# Altium footprint library IC_VS1053B_LQFP48.PcbLib: 1 footprints
Each footprint in its own frame and in the unit in brackets; x right, y up, seen from the top. Pads: shape width x height; smd on the part's side, far side on the other; paste and mask are expansions set on the pad; w line width, h text height; cw(c..) or ccw(c..) is an arc to the next point about the centre after c.
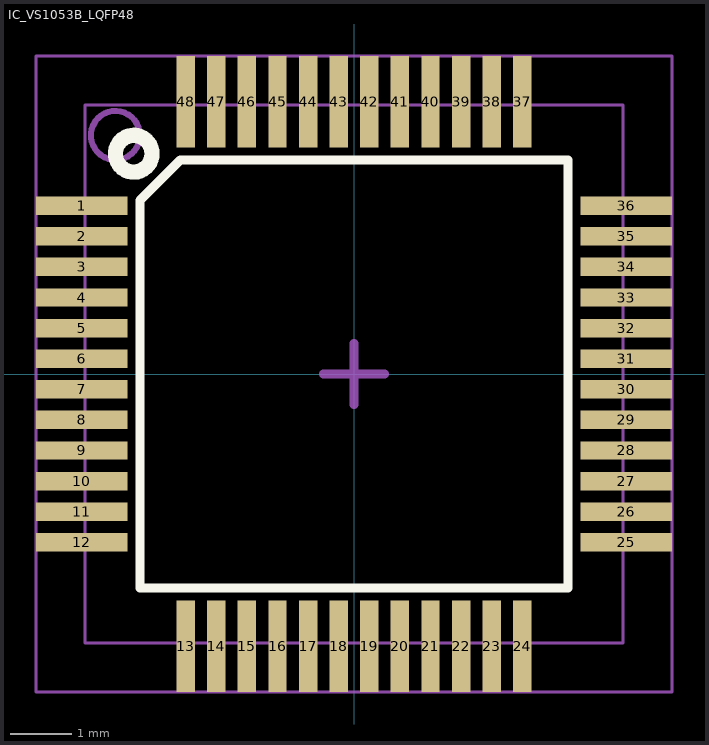
[diagram p0: the footprint, top view; thin cyan lines are the x and y axes]

## IC_VS1053B_LQFP48 [mm] "VS1053B MP3/WAV/OGG/MIDI PLAYER"
pads (48):
  rect 1.5x0.3 smd: 1(-4.45,2.75) 2(-4.45,2.25) 3(-4.45,1.75) 4(-4.45,1.25) 5(-4.45,0.75) 6(-4.45,0.25) 7(-4.45,-0.25) 8(-4.45,-0.75) 9(-4.45,-1.25) 10(-4.45,-1.75) 11(-4.45,-2.25) 12(-4.45,-2.75) 25(4.45,-2.75) 26(4.45,-2.25) 27(4.45,-1.75) 28(4.45,-1.25) 29(4.45,-0.75) 30(4.45,-0.25) 31(4.45,0.25) 32(4.45,0.75) 33(4.45,1.25) 34(4.45,1.75) 35(4.45,2.25) 36(4.45,2.75)
  rect 0.3x1.5 smd: 13(-2.75,-4.45) 14(-2.25,-4.45) 15(-1.75,-4.45) 16(-1.25,-4.45) 17(-0.75,-4.45) 18(-0.25,-4.45) 19(0.25,-4.45) 20(0.75,-4.45) 21(1.25,-4.45) 22(1.75,-4.45) 23(2.25,-4.45) 24(2.75,-4.45) 37(2.75,4.45) 38(2.25,4.45) 39(1.75,4.45) 40(1.25,4.45) 41(0.75,4.45) 42(0.25,4.45) 43(-0.25,4.45) 44(-0.75,4.45) 45(-1.25,4.45) 46(-1.75,4.45) 47(-2.25,4.45) 48(-2.75,4.45)
Top Overlay:
  circle w0.25: c-3.6,3.6 r0.3
  lines w0.15: -3.5,-3.5 3.5,-3.5 3.5,3.5 -2.836,3.5 -3.5,2.836 -3.5,-3.5
Top Assembly:
  circle w0.1: c-3.9,3.9 r0.4
  lines w0.05: -4.398,-4.398 4.398,-4.398 4.398,4.398 -4.398,4.398 -4.398,-4.398
  text ".Designator" at -3.048,-0.269 h1.27
Top Courtyard:
  lines w0.05: -5.198,-5.198 5.198,-5.198 5.198,5.198 -5.198,5.198 -5.198,-5.198
  lines w0.15: -0.5,0 0.5,0 ; 0,-0.5 0,0.5
3D body "User Library-LQFP48-2.STEP": height 1.62, standoff -0.01, extent -4.572,-4.572 4.572,4.572